# Altium footprint library JST_B2B-XH-A.PcbLib: 1 footprints
Each footprint in its own frame and in the unit in brackets; x right, y up, seen from the top. Pads: shape width x height; smd on the part's side, far side on the other; paste and mask are expansions set on the pad; w line width, h text height; cw(c..) or ccw(c..) is an arc to the next point about the centre after c.
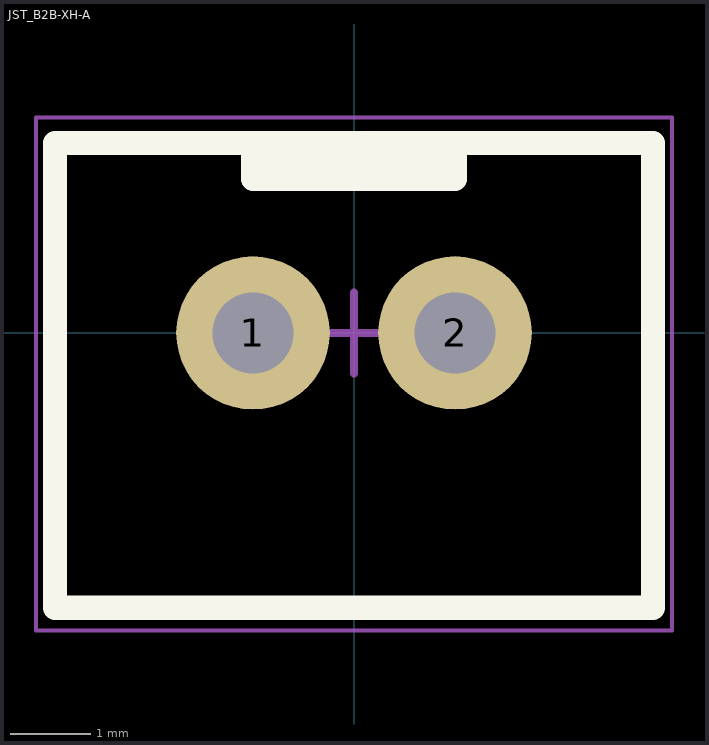
[diagram p0: the footprint, top view; thin cyan lines are the x and y axes]

## JST_B2B-XH-A [mm] "JST_B2B-XH-A"
height 7
pads (2):
  round 1.9 hole 1 mask+0.05: 1(-1.25,0) 2(1.25,0)
Top Overlay:
  rectangle: -1.25,1.905 1.25,2.35
  lines w0.3: -1.25,2.35 1.25,2.35 ; -1.25,2.35 -3.7,2.35 -3.7,-3.4 3.7,-3.4 3.7,2.35 1.25,2.35 ; -1.25,2.35 -1.25,1.905 1.25,1.905 1.25,2.35
Mechanical 15:
  lines w0.05: -3.937,-3.683 -3.937,2.667 3.937,2.667 3.937,-3.683 -3.937,-3.683
  lines w0.1: -0.5,0 0.5,0 ; 0,-0.5 0,0.5
3D body "JST_B2B-XH-A.step": height 7, standoff -3.4, extent -3.7,-3.4 3.7,2.35